# EAGLE library part PIC16F15355 (library Eagle_CAD_parts)
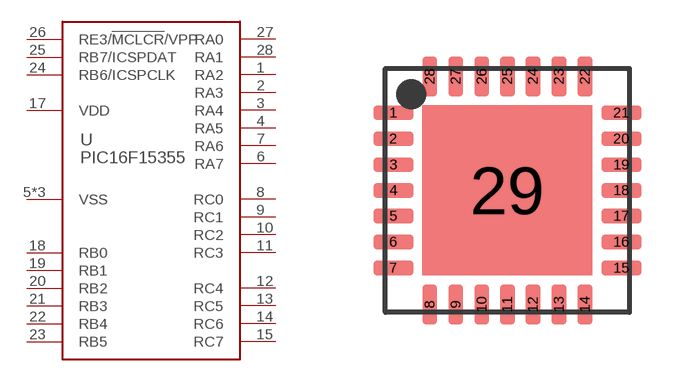
[diagram p44: symbol with the pads of 28-QFN-6X6; footprint 28-QFN-6X6]

Designator prefix U

## PIC16F15355_28QFN_6X6 (DIGIKEY_PART_NUMBER: PIC16F15355T-I/MLCT-ND)  [28-QFN-6X6]
1  RA2
2  RA3
3  RA4
4  RA5
5  VSS
6  RA7
7  RA6
8  RC0
9  RC1
10  RC2
11  RC3
12  RC4
13  RC5
14  RC6
15  RC7
16  VSS
17  VDD
18  RB0
19  RB1
20  RB2
21  RB3
22  RB4
23  RB5
24  RB6/ICSPCLK
25  RB7/ICSPDAT
26  RE3/!MCLCR!/VPP
27  RA0
28  RA1
29  VSS

## Footprint 28-QFN-6X6 (pad centres in mm)
smd 1 x 0.37: 1 -2.85,1.94; 2 -2.85,1.29; 3 -2.85,0.64; 4 -2.85,0; 5 -2.85,-0.64; 6 -2.85,-1.29; 7 -2.85,-1.94; 15 2.85,-1.94; 16 2.85,-1.29; 17 2.85,-0.64; 18 2.85,0; 19 2.85,0.64; 20 2.85,1.29; 21 2.85,1.94
smd 0.37 x 1: 8 -1.94,-2.85; 9 -1.29,-2.85; 10 -0.64,-2.85; 11 0,-2.85; 12 0.64,-2.85; 13 1.29,-2.85; 14 1.94,-2.85; 22 1.94,2.85; 23 1.29,2.85; 24 0.64,2.85; 25 0,2.85; 26 -0.64,2.85; 27 -1.29,2.85; 28 -1.94,2.85
smd 4.25 x 4.25: 29 0,0